# Altium schematic symbol library REF3033AIDBZT.SchLib: 1 symbol
Pins are listed as number, name and electrical type; pins without a type are passive.

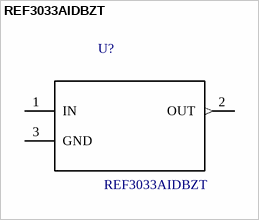
[diagram p0: symbol REF3033AIDBZT]

## REF3033AIDBZT
designator U?
3.3V 50ppm/Degrees C, 50uA in SOT23-3 Series _Bandgap_ Voltage Reference 3-SOT-23 -40 to 125; MF: Texas Instruments; Availability: Unavailable; Price: None; Package: SOT-23-3 Texas Instruments; MP: REF3033AIDBZT; SnapEDA_Link: https://www.snapeda.com/parts/REF3033AIDBZT/Texas%20Instruments/view-part/?ref=snap; Value: *
footprint SOT95P237X112-3N
pins: 1 IN (power), 2 OUT (out), 3 GND